# EAGLE library part DS75176 (library oksid1)
RS485 TRANSEIVER
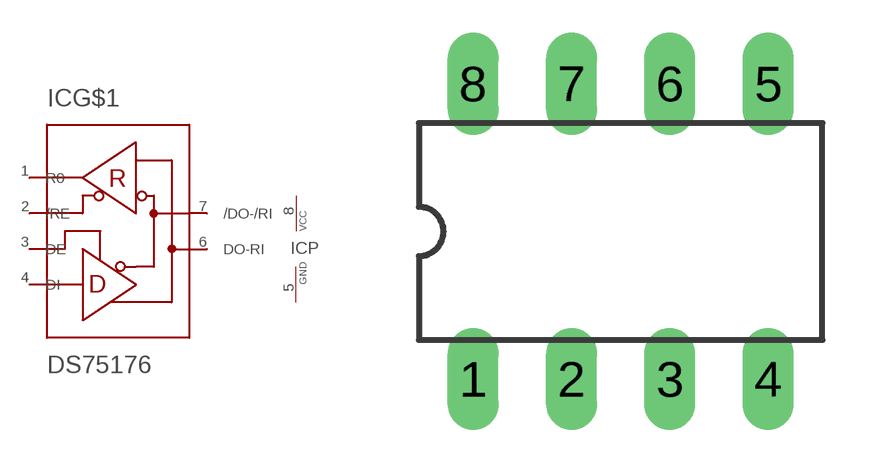
[diagram p1: symbol with the pads of DIL08; footprint DIL08]

Designator prefix IC; gates P=VCC-GND G$1=75176

## DS75176B  [DIL08]
1  G$1:R0  out
2  G$1:/RE  in
3  G$1:DE  in
4  G$1:DI  in
5  P:GND  pwr
6  G$1:DO-RI
7  G$1:/DO-/RI
8  P:VCC  pwr

## Footprint DIL08 (pad centres in mm)
Dual In Line
drill 0.813 long: 1 -3.81,-3.81; 2 -1.27,-3.81; 3 1.27,-3.81; 4 3.81,-3.81; 5 3.81,3.81; 6 1.27,3.81; 7 -1.27,3.81; 8 -3.81,3.81